# EAGLE library part ZR_B6B-ZR (library CASE-JST)
JST ZR Connector, through hole, 6 pin, top entry Description: JST ZR connector with 1.5 mm pitch, through hole version, 6 pin, top entry. Links: Datasheet <http://www.jst-mfg.com/product/pdf/eng/eZH.pdf>
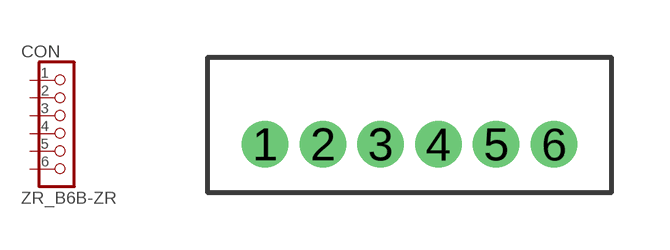
[diagram p29: symbol with the pads of B6B-ZR; footprint B6B-ZR]

Designator prefix CON

## ZR_B6B-ZR  [B6B-ZR]
1  1  pas
2  2  pas
3  3  pas
4  4  pas
5  5  pas
6  6  pas

## Footprint B6B-ZR (pad centres in mm)
JST B6B-ZR Datasheet <http://www.jst-mfg.com/product/pdf/eng/eZH.pdf>
drill 0.7: 1 -3.75,0; 2 -2.25,0; 3 -0.75,0; 4 0.75,0; 5 2.25,0; 6 3.75,0